# Altium footprint library SP3003-02XTG.PcbLib: 3 footprints
Each footprint in its own frame and in the unit in brackets; x right, y up, seen from the top. Pads: shape width x height; smd on the part's side, far side on the other; paste and mask are expansions set on the pad; w line width, h text height; cw(c..) or ccw(c..) is an arc to the next point about the centre after c.
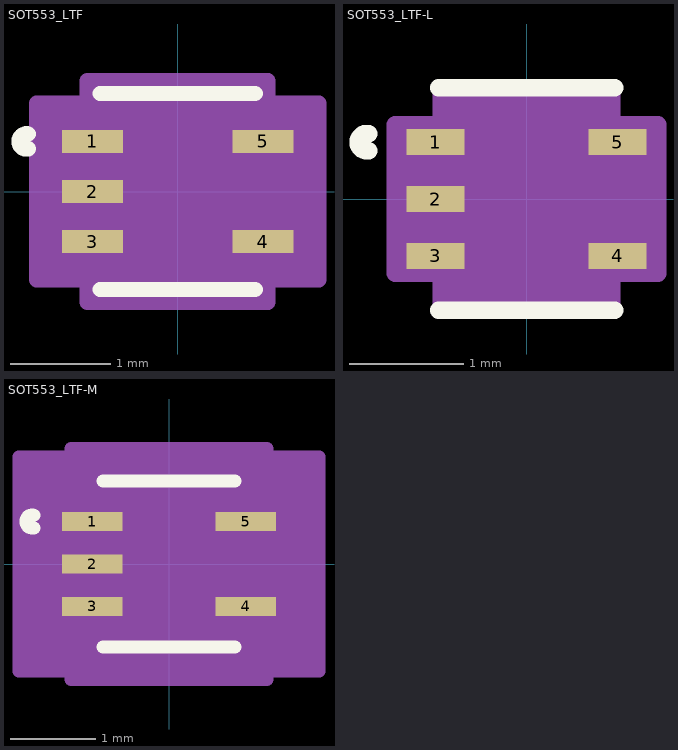
[diagram p0: the footprints below, top view; thin cyan lines are the x and y axes]

## SOT553_LTF [mil]
pads (5):
  rect 24x9 smd paste+0 mask+0: 1(-33.5,19.69) 2(-33.5,0) 3(-33.5,-19.69) 4(33.5,-19.68) 5(33.5,19.68)
Top Overlay:
  lines w6: -58.6,16.78 cw(c-59.34,19.69) -58.6,22.6 ; -30.5,-38.5 30.5,-38.5 ; -30.5,38.5 30.5,38.5
Mechanical 13:
  circle w0: c-21.5,19.69 r3
  lines w0: -12,33.5 ccw(c0,33.5) 12,33.5
  lines w1: -25.5,-33.5 25.5,-33.5 25.5,33.5 -25.5,33.5 -25.5,-33.5
Mechanical 15:
  region: 35.5,-43.5 -35.5,-43.5 -35.5,-34.69 -55.5,-34.69 -55.5,34.69 -35.5,34.69 -35.5,43.5 35.5,43.5 35.5,34.69 55.5,34.69 55.5,-34.69 35.5,-34.69
  lines w6: -55.5,-34.69 -35.5,-34.69 -35.5,-43.5 35.5,-43.5 35.5,-34.69 55.5,-34.69 55.5,34.69 35.5,34.69 35.5,43.5 -35.5,43.5 -35.5,34.69 -55.5,34.69 -55.5,-34.69
3D body "SOT553_LTF.step": height 24.09, standoff 0, extent -33.5,-33.5 33.5,33.5

## SOT553_LTF-L [mil]
pads (5):
  rect 20x9 smd paste+0 mask+0: 1(-31.5,19.69) 2(-31.5,0) 3(-31.5,-19.69) 4(31.5,-19.68) 5(31.5,19.68)
Top Overlay:
  lines w6: -54.6,16.78 cw(c-55.34,19.69) -54.6,22.6 ; -30.5,-38.5 30.5,-38.5 ; -30.5,38.5 30.5,38.5
Mechanical 13:
  circle w0: c-21.5,19.69 r3
  lines w0: -12,33.5 ccw(c0,33.5) 12,33.5
  lines w1: -25.5,-33.5 25.5,-33.5 25.5,33.5 -25.5,33.5 -25.5,-33.5
Mechanical 15:
  region: 29.5,-37.5 -29.5,-37.5 -29.5,-25.69 -45.5,-25.69 -45.5,25.69 -29.5,25.69 -29.5,37.5 29.5,37.5 29.5,25.68 45.5,25.68 45.5,-25.68 29.5,-25.68
  lines w6: -45.5,-25.69 -29.5,-25.69 -29.5,-37.5 29.5,-37.5 29.5,-25.68 45.5,-25.68 45.5,25.68 29.5,25.68 29.5,37.5 -29.5,37.5 -29.5,25.69 -45.5,25.69 -45.5,-25.69
3D body "SOT553_LTF.step": height 24.09, standoff 0, extent -33.5,-33.5 33.5,33.5

## SOT553_LTF-M [mil]
pads (5):
  rect 28x9 smd paste+0 mask+0: 1(-35.5,19.69) 2(-35.5,0) 3(-35.5,-19.69) 4(35.5,-19.68) 5(35.5,19.68)
Top Overlay:
  lines w6: -62.6,16.78 cw(c-63.34,19.69) -62.6,22.6 ; -30.5,-38.5 30.5,-38.5 ; -30.5,38.5 30.5,38.5
Mechanical 13:
  circle w0: c-21.5,19.69 r3
  lines w0: -12,33.5 ccw(c0,33.5) 12,33.5
  lines w1: -25.5,-33.5 25.5,-33.5 25.5,33.5 -25.5,33.5 -25.5,-33.5
Mechanical 15:
  region: 45.5,-53.5 -45.5,-53.5 -45.5,-49.69 -69.5,-49.69 -69.5,49.69 -45.5,49.69 -45.5,53.5 45.5,53.5 45.5,49.69 69.5,49.69 69.5,-49.69 45.5,-49.69
  lines w6: -69.5,-49.69 -45.5,-49.69 -45.5,-53.5 45.5,-53.5 45.5,-49.69 69.5,-49.69 69.5,49.69 45.5,49.69 45.5,53.5 -45.5,53.5 -45.5,49.69 -69.5,49.69 -69.5,-49.69
3D body "SOT553_LTF.step": height 24.09, standoff 0, extent -33.5,-33.5 33.5,33.5